# Altium footprint library PCB - POWER INDUCTORS - PANASONIC ETQP4MxxxKFM.PcbLib: 1 footprints
Each footprint in its own frame and in the unit in brackets; x right, y up, seen from the top. Pads: shape width x height; smd on the part's side, far side on the other; paste and mask are expansions set on the pad; w line width, h text height; cw(c..) or ccw(c..) is an arc to the next point about the centre after c.
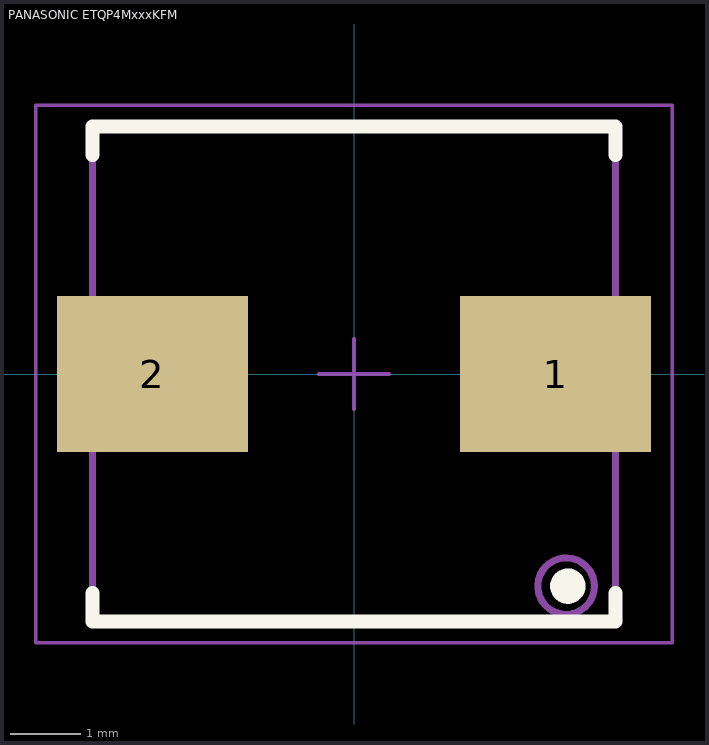
[diagram p0: the footprint, top view; thin cyan lines are the x and y axes]

## PANASONIC ETQP4MxxxKFM [mm] "SMD Power Inductor, 2-Leads, body 7x7mm"
height 4
pads (2):
  rect 2.7x2.2 smd: 1(2.85,0) 2(-2.85,0)
Top Overlay:
  circle w0.25: c3.025,-3 r0.125
  lines w0.2: -3.7,-3.1 -3.7,-3.5 3.7,-3.5 3.7,-3.1 ; -3.7,3.1 -3.7,3.5 3.7,3.5 3.7,3.1
Top 3D Body:
  circle w0.1: c3,-3 r0.4
  lines w0.1: -3.7,-3.5 3.7,-3.5 3.7,3.5 -3.7,3.5 -3.7,-3.5
Top Component Outline:
  circle w0.1: c3,-3 r0.4
  lines w0.1: -3.7,-3.5 3.7,-3.5 3.7,3.5 -3.7,3.5 -3.7,-3.5
Top Courtyard:
  lines w0.05: -0.5,0 0.5,0 ; 0,-0.5 0,0.5 ; -4.5,-3.8 -4.5,3.8 4.5,3.8 4.5,-3.8 -4.5,-3.8
3D body "Panasonic ETQP4M KFM.step": height 4.8, standoff 0, extent -3.7,-3.5 3.7,3.5